# Altium integrated library CDE_Library.IntLib: 6171 symbols (part 9 of 25)
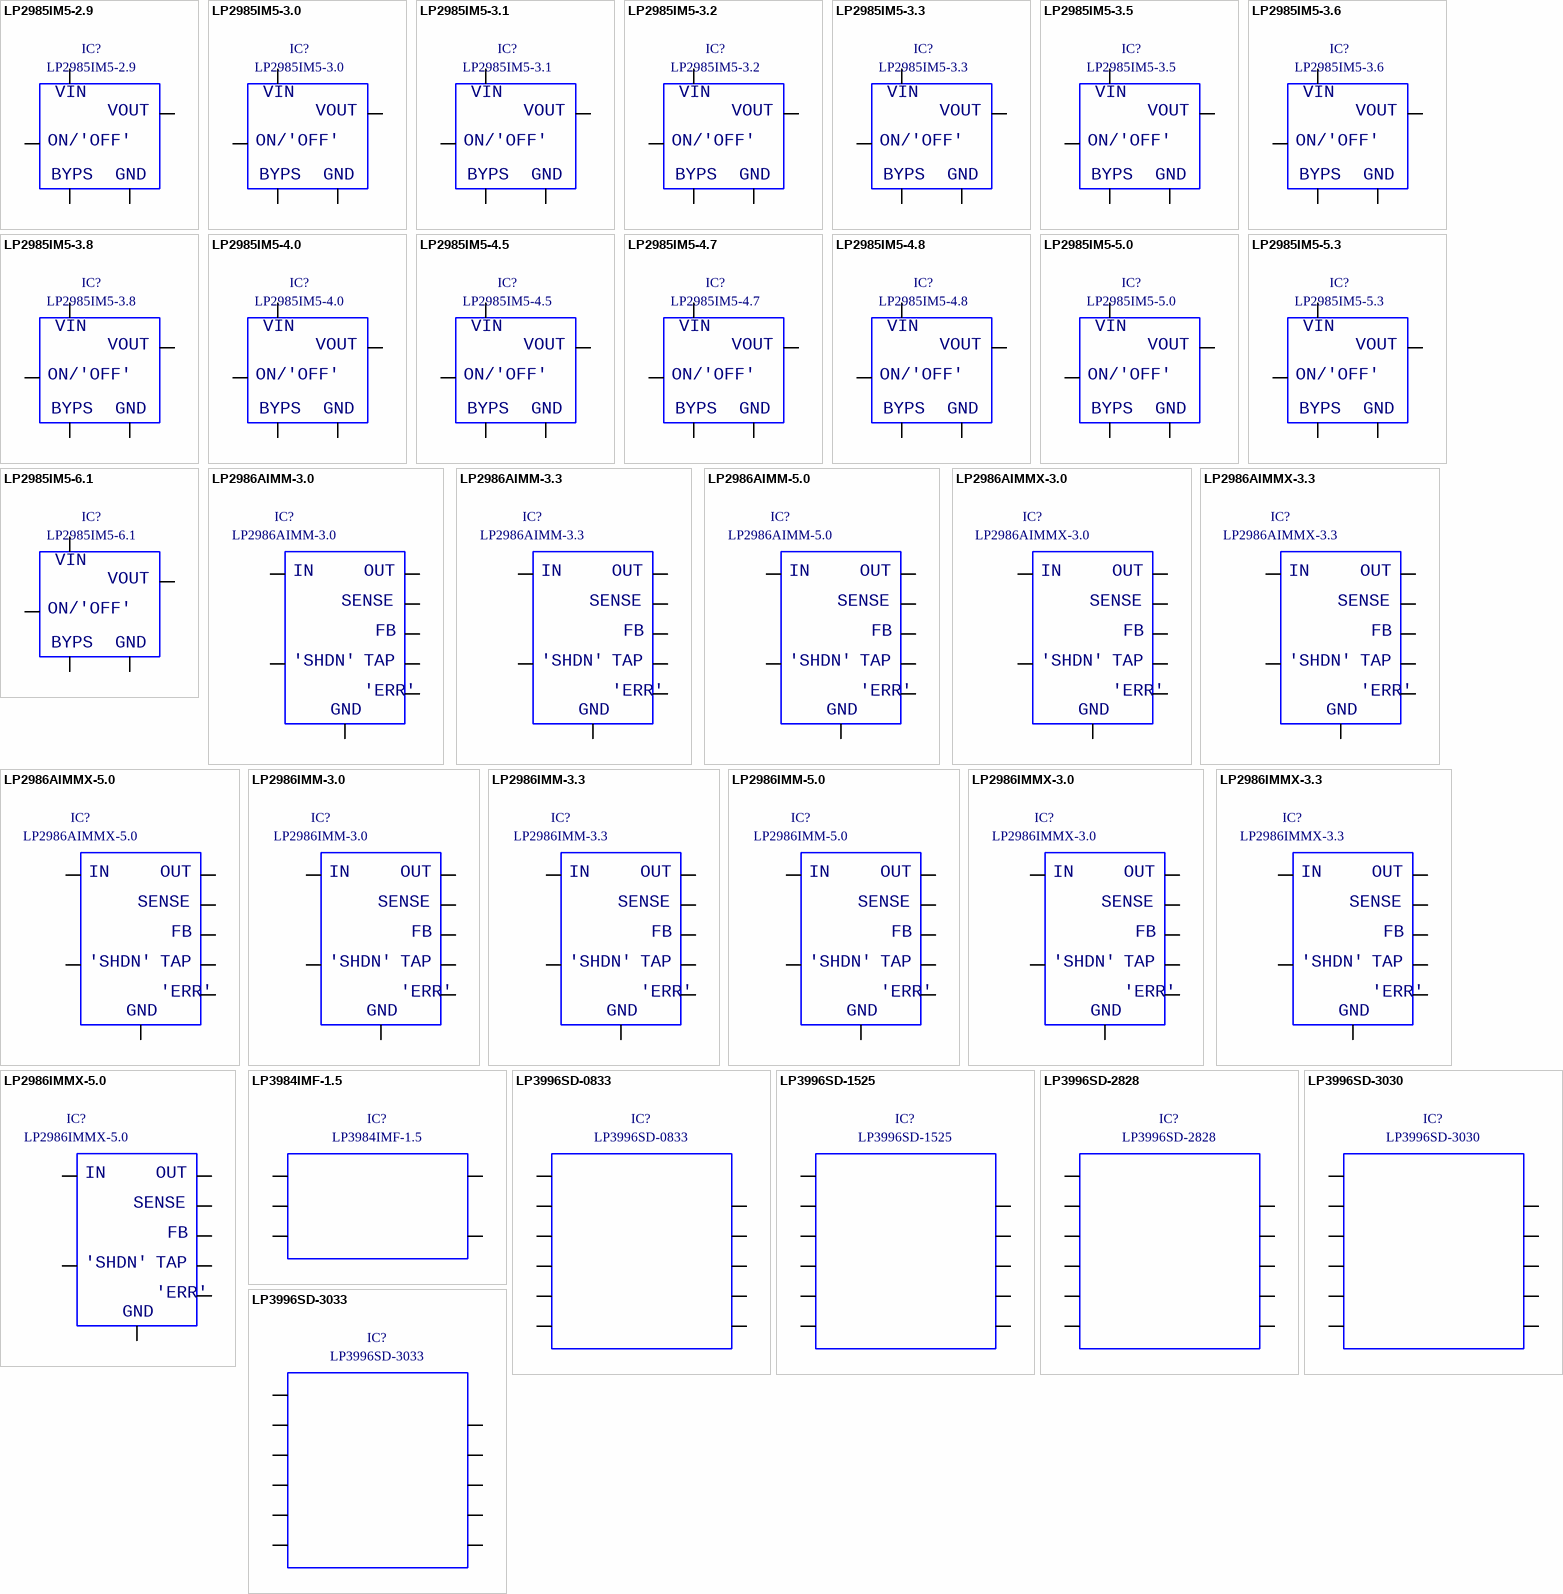
[diagram p265: symbols LP2985IM5-2.9 to LP3996SD-3033]

## LP2986IMM-3.3
designator IC?
micropower, 200 mA ultra low-dropout regulator; Part Number: LP2986IMM-3.3; Component Kind: Standard; Component Type: Standard; Designator: LP2986IMM-3.3; Footprint: smd TSSOP/8 (body 4.4 pitch 0.65); Library Reference: LP2986IMM-3.3; Pin Count: 8
footprint smd TSSOP/8 (body 4.4 pitch 0.65)
pins: 1, 2, 3, 4, 5, 6, 7, 8
text: IN; OUT; SENSE; FB; 'SHDN'; TAP; 'ERR'; GND

## LP2986IMM-5.0
designator IC?
micropower, 200 mA ultra low-dropout regulator; Part Number: LP2986IMM-5.0; Component Kind: Standard; Component Type: Standard; Designator: LP2986IMM-5.0; Footprint: smd TSSOP/8 (body 4.4 pitch 0.65); Library Reference: LP2986IMM-5.0; Pin Count: 8
footprint smd TSSOP/8 (body 4.4 pitch 0.65)
pins: 1, 2, 3, 4, 5, 6, 7, 8
text: IN; OUT; SENSE; FB; 'SHDN'; TAP; 'ERR'; GND

## LP2986IMMX-3.0
designator IC?
micropower, 200 mA ultra low-dropout regulator; Part Number: LP2986IMMX-3.0; Component Kind: Standard; Component Type: Standard; Designator: LP2986IMMX-3.0; Footprint: smd TSSOP/8 (body 4.4 pitch 0.65); Library Reference: LP2986IMMX-3.0; Pin Count: 8
footprint smd TSSOP/8 (body 4.4 pitch 0.65)
pins: 1, 2, 3, 4, 5, 6, 7, 8
text: IN; OUT; SENSE; FB; 'SHDN'; TAP; 'ERR'; GND

## LP2986IMMX-3.3
designator IC?
micropower, 200 mA ultra low-dropout regulator; Part Number: LP2986IMMX-3.3; Component Kind: Standard; Component Type: Standard; Designator: LP2986IMMX-3.3; Footprint: smd TSSOP/8 (body 4.4 pitch 0.65); Library Reference: LP2986IMMX-3.3; Pin Count: 8
footprint smd TSSOP/8 (body 4.4 pitch 0.65)
pins: 1, 2, 3, 4, 5, 6, 7, 8
text: IN; OUT; SENSE; FB; 'SHDN'; TAP; 'ERR'; GND

## LP2986IMMX-5.0
designator IC?
micropower, 200 mA ultra low-dropout regulator; Part Number: LP2986IMMX-5.0; Component Kind: Standard; Component Type: Standard; Designator: LP2986IMMX-5.0; Footprint: smd TSSOP/8 (body 4.4 pitch 0.65); Library Reference: LP2986IMMX-5.0; Pin Count: 8
footprint smd TSSOP/8 (body 4.4 pitch 0.65)
pins: 1, 2, 3, 4, 5, 6, 7, 8
text: IN; OUT; SENSE; FB; 'SHDN'; TAP; 'ERR'; GND

## LP3984IMF-1.5
designator IC?
spanningsregelaar, ulra low dropout, micropower, low noise
footprint smd SOT-23/5p (body 1.6 wide, pitch 0.95mm)
pins: 1 VIN, 2 GND, 3 VEN, 4 NC, 5 VOUT

## LP3996SD-0833
designator IC?
Dual Linear LDO Regulator
footprint smd LLP/10
pins: 1 VIN, 2 EN1, 3 EN2, 4 CBYP, 5 SET, 6 GND, 7 NC, 8 POR, 9 VOUT2, 10 VOUT1, 11 GND

## LP3996SD-1525
designator IC?
Dual Linear LDO Regulator; Part Number: LP3996SD-1525; Component Kind: Standard; Component Type: Standard; Designator: LP3996SD-1525; Footprint: smd LLP/10; Library Reference: LP3996SD-1525; Pin Count: 11
footprint smd LLP/10
pins: 1 VIN, 2 EN1, 3 EN2, 4 CBYP, 5 SET, 6 GND, 7 NC, 8 POR, 9 VOUT2, 10 VOUT1, 11 GND

## LP3996SD-2828
designator IC?
Dual Linear LDO Regulator; Part Number: LP3996SD-2828; Component Kind: Standard; Component Type: Standard; Designator: LP3996SD-2828; Footprint: smd LLP/10; Library Reference: LP3996SD-2828; Pin Count: 11
footprint smd LLP/10
pins: 1 VIN, 2 EN1, 3 EN2, 4 CBYP, 5 SET, 6 GND, 7 NC, 8 POR, 9 VOUT2, 10 VOUT1, 11 GND

## LP3996SD-3030
designator IC?
Dual Linear LDO Regulator; Part Number: LP3996SD-3030; Component Kind: Standard; Component Type: Standard; Designator: LP3996SD-3030; Footprint: smd LLP/10; Library Reference: LP3996SD-3030; Pin Count: 11
footprint smd LLP/10
pins: 1 VIN, 2 EN1, 3 EN2, 4 CBYP, 5 SET, 6 GND, 7 NC, 8 POR, 9 VOUT2, 10 VOUT1, 11 GND

## LP3996SD-3033
designator IC?
Dual Linear LDO Regulator; Part Number: LP3996SD-3033; Component Kind: Standard; Component Type: Standard; Designator: LP3996SD-3033; Footprint: smd LLP/10; Library Reference: LP3996SD-3033; Pin Count: 11
footprint smd LLP/10
pins: 1 VIN, 2 EN1, 3 EN2, 4 CBYP, 5 SET, 6 GND, 7 NC, 8 POR, 9 VOUT2, 10 VOUT1, 11 GND

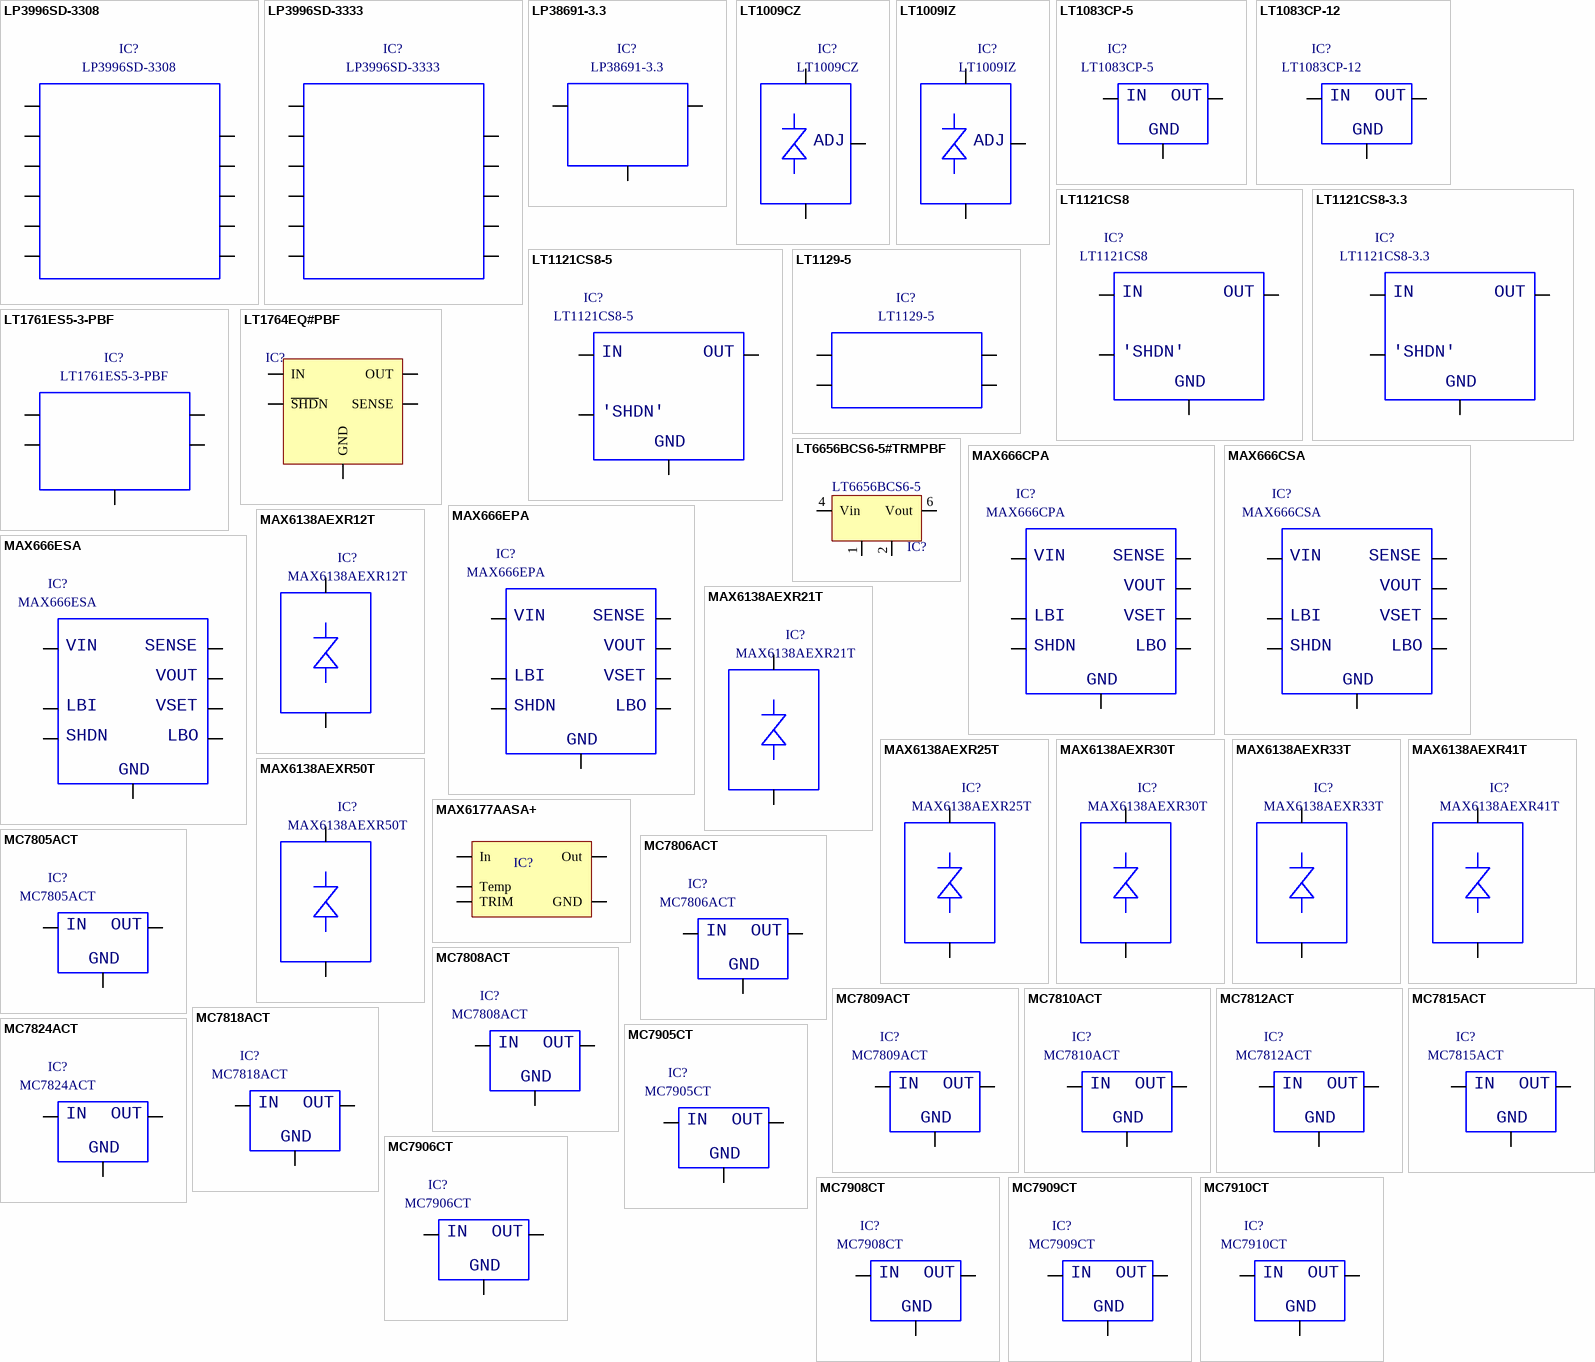
[diagram p112: symbols LP3996SD-3308 to MC7910CT]

## LP3996SD-3308
designator IC?
Dual Linear LDO Regulator; Part Number: LP3996SD-3308; Component Kind: Standard; Component Type: Standard; Designator: LP3996SD-3308; Footprint: smd LLP/10; Library Reference: LP3996SD-3308; Pin Count: 11
footprint smd LLP/10
pins: 1 VIN, 2 EN1, 3 EN2, 4 CBYP, 5 SET, 6 GND, 7 NC, 8 POR, 9 VOUT2, 10 VOUT1, 11 GND

## LP3996SD-3333
designator IC?
Dual Linear LDO Regulator; Part Number: LP3996SD-3333; Component Kind: Standard; Component Type: Standard; Designator: LP3996SD-3333; Footprint: smd LLP/10; Library Reference: LP3996SD-3333; Pin Count: 11
footprint smd LLP/10
pins: 1 VIN, 2 EN1, 3 EN2, 4 CBYP, 5 SET, 6 GND, 7 NC, 8 POR, 9 VOUT2, 10 VOUT1, 11 GND

## LP38691-3.3
designator IC?
LDO 3.3V, TO-225
footprint TO-252 3pin
pins: 1 Vout, 2 GND, 3 Vin

## LT1009CZ
designator IC?
precision voltage reference, 2.5000V
footprint TO-92
pins: 1, 2, 3
text: ADJ

## LT1009IZ
designator IC?
precision voltage reference, 2.5000V; Part Number: LT1009IZ; Component Kind: Standard; Component Type: Standard; Designator: LT1009IZ; Footprint: TO-92; Library Reference: LT1009IZ; Pin Count: 3
footprint TO-92
pins: 1, 2, 3
text: ADJ

## LT1083CP-5
designator IC?
spanningsregelaar +5v/7.5A
footprint TO-247 (vertikaal)
pins: 1, 2, 3
text: IN; OUT; GND

## LT1083CP-12
designator IC?
spanningsregelaar +12V/7.5A; Part Number: LT1083CP-12; Component Kind: Standard; Component Type: Standard; Designator: LT1083CP-12; Footprint: TO-247 (vertikaal); Library Reference: LT1083CP-12; Pin Count: 3
footprint TO-247 (vertikaal)
pins: 1, 2, 3
text: IN; OUT; GND

## LT1121CS8
designator IC?
micropower low dropout regulators with shutdown, adj.
footprint smd SOICN/8
pins: 1, 3, 5, 8
text: IN; OUT; 'SHDN'; GND

## LT1121CS8-3.3
designator IC?
micropower low dropout regulators with shutdown, +3.3V; Part Number: LT1121CS8-3.3; Component Kind: Standard; Component Type: Standard; Designator: LT1121CS8-3.3; Footprint: smd SOICN/8; Library Reference: LT1121CS8-3.3; Pin Count: 4
footprint smd SOICN/8
pins: 1, 3, 5, 8
text: IN; OUT; 'SHDN'; GND

## LT1121CS8-5
designator IC?
micropower low dropout regulators with shutdown, +5V; Part Number: LT1121CS8-5; Component Kind: Standard; Component Type: Standard; Designator: LT1121CS8-5; Footprint: smd SOICN/8; Library Reference: LT1121CS8-5; Pin Count: 4
footprint smd SOICN/8
pins: 1, 3, 5, 8
text: IN; OUT; 'SHDN'; GND

## LT1129-5
designator IC?
Low Drop-Out linear regulator 5V 700mA
footprint smd SOT-223
pins: 1 Vin, 2 GND, 3 Vout, 4 GND

## LT1761ES5-3-PBF
designator IC?
100mA Low Noise LDO micropower regulator
footprint smd SOT-23/5p (body 1.6 wide, pitch 0.95mm)
pins: 1 IN, 2 GND, 3 'SHDN', 4 BYP, 5 OUT

## LT1764EQ#PBF
designator IC?  (value not drawn)
3A, Fast Transient  Response, Low Noise,  LDO Regulator
footprint SMD D2-PAK-5
pins: 1 ~{SHD}N, 2 IN, 3 GND, 4 OUT, 5 SENSE

## LT6656BCS6-5#TRMPBF
designator IC?, comment LT6656BCS6-5
1uA Precision Series  Voltage Reference
footprint smd SOT-23/6p (body 1.6 wide, pitch 0.95mm)
pins: 1, 2, 4 Vin, 6 Vout

## MAX666CPA
designator IC?
dual mode 5V programmable µ-power voltage regulator
footprint icv DIP8-300
pins: 1, 2, 3, 4, 5, 6, 7, 8
text: VIN; SENSE; VOUT; LBI; VSET; SHDN; LBO; GND

## MAX666CSA
designator IC?
dual mode 5V programmable µ-power voltage regulator
footprint smd SOICN/8
pins: 1, 2, 3, 4, 5, 6, 7, 8
text: VIN; SENSE; VOUT; LBI; VSET; SHDN; LBO; GND

## MAX666EPA
designator IC?
dual mode 5V programmable µ-power voltage regulator; Part Number: MAX666EPA; Component Kind: Standard; Component Type: Standard; Designator: MAX666EPA; Footprint: icv DIP8-300; Library Reference: MAX666EPA; Pin Count: 8
footprint icv DIP8-300
pins: 1, 2, 3, 4, 5, 6, 7, 8
text: VIN; SENSE; VOUT; LBI; VSET; SHDN; LBO; GND

## MAX666ESA
designator IC?
dual mode 5V programmable µ-power voltage regulator; Part Number: MAX666ESA; Component Kind: Standard; Component Type: Standard; Designator: MAX666ESA; Footprint: smd SOICN/8; Library Reference: MAX666ESA; Pin Count: 8
footprint smd SOICN/8
pins: 1, 2, 3, 4, 5, 6, 7, 8
text: VIN; SENSE; VOUT; LBI; VSET; SHDN; LBO; GND

## MAX6138AEXR12T
designator IC?
precision voltage reference, 1.2205V
footprint smd SOT-23
pins: 1, 2

## MAX6138AEXR21T
designator IC?
precision voltage reference, 2.0480V; Part Number: MAX6138AEXR21T; Component Kind: Standard; Component Type: Standard; Designator: MAX6138AEXR21T; Footprint: smd SOT-23; Library Reference: MAX6138AEXR21T; Pin Count: 2
footprint smd SOT-23
pins: 1, 2

## MAX6138AEXR25T
designator IC?
precision voltage reference, 2.5000V; Part Number: MAX6138AEXR25T; Component Kind: Standard; Component Type: Standard; Designator: MAX6138AEXR25T; Footprint: smd SOT-23; Library Reference: MAX6138AEXR25T; Pin Count: 2
footprint smd SOT-23
pins: 1, 2

## MAX6138AEXR30T
designator IC?
precision voltage reference, 3.0000V; Part Number: MAX6138AEXR30T; Component Kind: Standard; Component Type: Standard; Designator: MAX6138AEXR30T; Footprint: smd SOT-23; Library Reference: MAX6138AEXR30T; Pin Count: 2
footprint smd SOT-23
pins: 1, 2

## MAX6138AEXR33T
designator IC?
precision voltage reference, 3.3000V; Part Number: MAX6138AEXR33T; Component Kind: Standard; Component Type: Standard; Designator: MAX6138AEXR33T; Footprint: smd SOT-23; Library Reference: MAX6138AEXR33T; Pin Count: 2
footprint smd SOT-23
pins: 1, 2

## MAX6138AEXR41T
designator IC?
precision voltage reference, 4.0960V; Part Number: MAX6138AEXR41T; Component Kind: Standard; Component Type: Standard; Designator: MAX6138AEXR41T; Footprint: smd SOT-23; Library Reference: MAX6138AEXR41T; Pin Count: 2
footprint smd SOT-23
pins: 1, 2

## MAX6138AEXR50T
designator IC?
precision voltage reference, 5.0000V; Part Number: MAX6138AEXR50T; Component Kind: Standard; Component Type: Standard; Designator: MAX6138AEXR50T; Footprint: smd SOT-23; Library Reference: MAX6138AEXR50T; Pin Count: 2
footprint smd SOT-23
pins: 1, 2

## MAX6177AASA+
designator IC?  (value not drawn)
High-Precision Voltage Reference with  Temperature Sensor
footprint smd SOICN/8
pins: 2 In, 3 Temp, 4 GND, 5 TRIM, 6 Out

## MC7805ACT
designator IC?
spanningsregelaar, +5V 1A, TO-220
footprint TO-220 (vertikaal)
pins: 1, 2, 3
text: IN; OUT; GND

## MC7806ACT
designator IC?
spanningsregelaar, +6V 1A, TO-220; Part Number: MC7806ACT; Component Kind: Standard; Component Type: Standard; Designator: MC7806ACT; Footprint: TO-220 (vertikaal); Library Reference: MC7806ACT; Pin Count: 3
footprint TO-220 (vertikaal)
pins: 1, 2, 3
text: IN; OUT; GND

## MC7808ACT
designator IC?
spanningsregelaar, +8V 1A, TO-220; Part Number: MC7808ACT; Component Kind: Standard; Component Type: Standard; Designator: MC7808ACT; Footprint: TO-220 (vertikaal); Library Reference: MC7808ACT; Pin Count: 3
footprint TO-220 (vertikaal)
pins: 1, 2, 3
text: IN; OUT; GND

## MC7809ACT
designator IC?
spanningsregelaar, +9V 1A, TO-220; Part Number: MC7809ACT; Component Kind: Standard; Component Type: Standard; Designator: MC7809ACT; Footprint: TO-220 (vertikaal); Library Reference: MC7809ACT; Pin Count: 3
footprint TO-220 (vertikaal)
pins: 1, 2, 3
text: IN; OUT; GND

## MC7810ACT
designator IC?
spanningsregelaar, +10V 1A, TO-220; Part Number: MC7810ACT; Component Kind: Standard; Component Type: Standard; Designator: MC7810ACT; Footprint: TO-220 (vertikaal); Library Reference: MC7810ACT; Pin Count: 3
footprint TO-220 (vertikaal)
pins: 1, 2, 3
text: IN; OUT; GND

## MC7812ACT
designator IC?
spanningsregelaar, +12V 1A, TO-220; Part Number: MC7812ACT; Component Kind: Standard; Component Type: Standard; Designator: MC7812ACT; Footprint: TO-220 (vertikaal); Library Reference: MC7812ACT; Pin Count: 3
footprint TO-220 (vertikaal)
pins: 1, 2, 3
text: IN; OUT; GND

## MC7815ACT
designator IC?
spanningsregelaar, +15V 1A, TO-220; Part Number: MC7815ACT; Component Kind: Standard; Component Type: Standard; Designator: MC7815ACT; Footprint: TO-220 (vertikaal); Library Reference: MC7815ACT; Pin Count: 3
footprint TO-220 (vertikaal)
pins: 1, 2, 3
text: IN; OUT; GND

## MC7818ACT
designator IC?
spanningsregelaar, +18V 1A, TO-220; Part Number: MC7818ACT; Component Kind: Standard; Component Type: Standard; Designator: MC7818ACT; Footprint: TO-220 (vertikaal); Library Reference: MC7818ACT; Pin Count: 3
footprint TO-220 (vertikaal)
pins: 1, 2, 3
text: IN; OUT; GND

## MC7824ACT
designator IC?
spanningsregelaar, +24V 1A, TO-220; Part Number: MC7824ACT; Component Kind: Standard; Component Type: Standard; Designator: MC7824ACT; Footprint: TO-220 (vertikaal); Library Reference: MC7824ACT; Pin Count: 3
footprint TO-220 (vertikaal)
pins: 1, 2, 3
text: IN; OUT; GND

## MC7905CT
designator IC?
spanningsregelaar, -5V 1A, TO-220; Part Number: MC7905CT; Component Kind: Standard; Component Type: Standard; Designator: MC7905CT; Footprint: TO-220 (vertikaal); Library Reference: MC7905CT; Pin Count: 3
footprint TO-220 (vertikaal)
pins: 1, 2, 3
text: IN; OUT; GND

## MC7906CT
designator IC?
spanningsregelaar, -6V 1A, TO-220; Part Number: MC7906CT; Component Kind: Standard; Component Type: Standard; Designator: MC7906CT; Footprint: TO-220 (vertikaal); Library Reference: MC7906CT; Pin Count: 3
footprint TO-220 (vertikaal)
pins: 1, 2, 3
text: IN; OUT; GND

## MC7908CT
designator IC?
spanningsregelaar, -8V 1A, TO-220; Part Number: MC7908CT; Component Kind: Standard; Component Type: Standard; Designator: MC7908CT; Footprint: TO-220 (vertikaal); Library Reference: MC7908CT; Pin Count: 3
footprint TO-220 (vertikaal)
pins: 1, 2, 3
text: IN; OUT; GND

## MC7909CT
designator IC?
spanningsregelaar, -9V 1A, TO-220; Part Number: MC7909CT; Component Kind: Standard; Component Type: Standard; Designator: MC7909CT; Footprint: TO-220 (vertikaal); Library Reference: MC7909CT; Pin Count: 3
footprint TO-220 (vertikaal)
pins: 1, 2, 3
text: IN; OUT; GND

## MC7910CT
designator IC?
spanningsregelaar, -10V 1A, TO-220
footprint TO-220 (vertikaal)
pins: 1, 2, 3
text: IN; OUT; GND

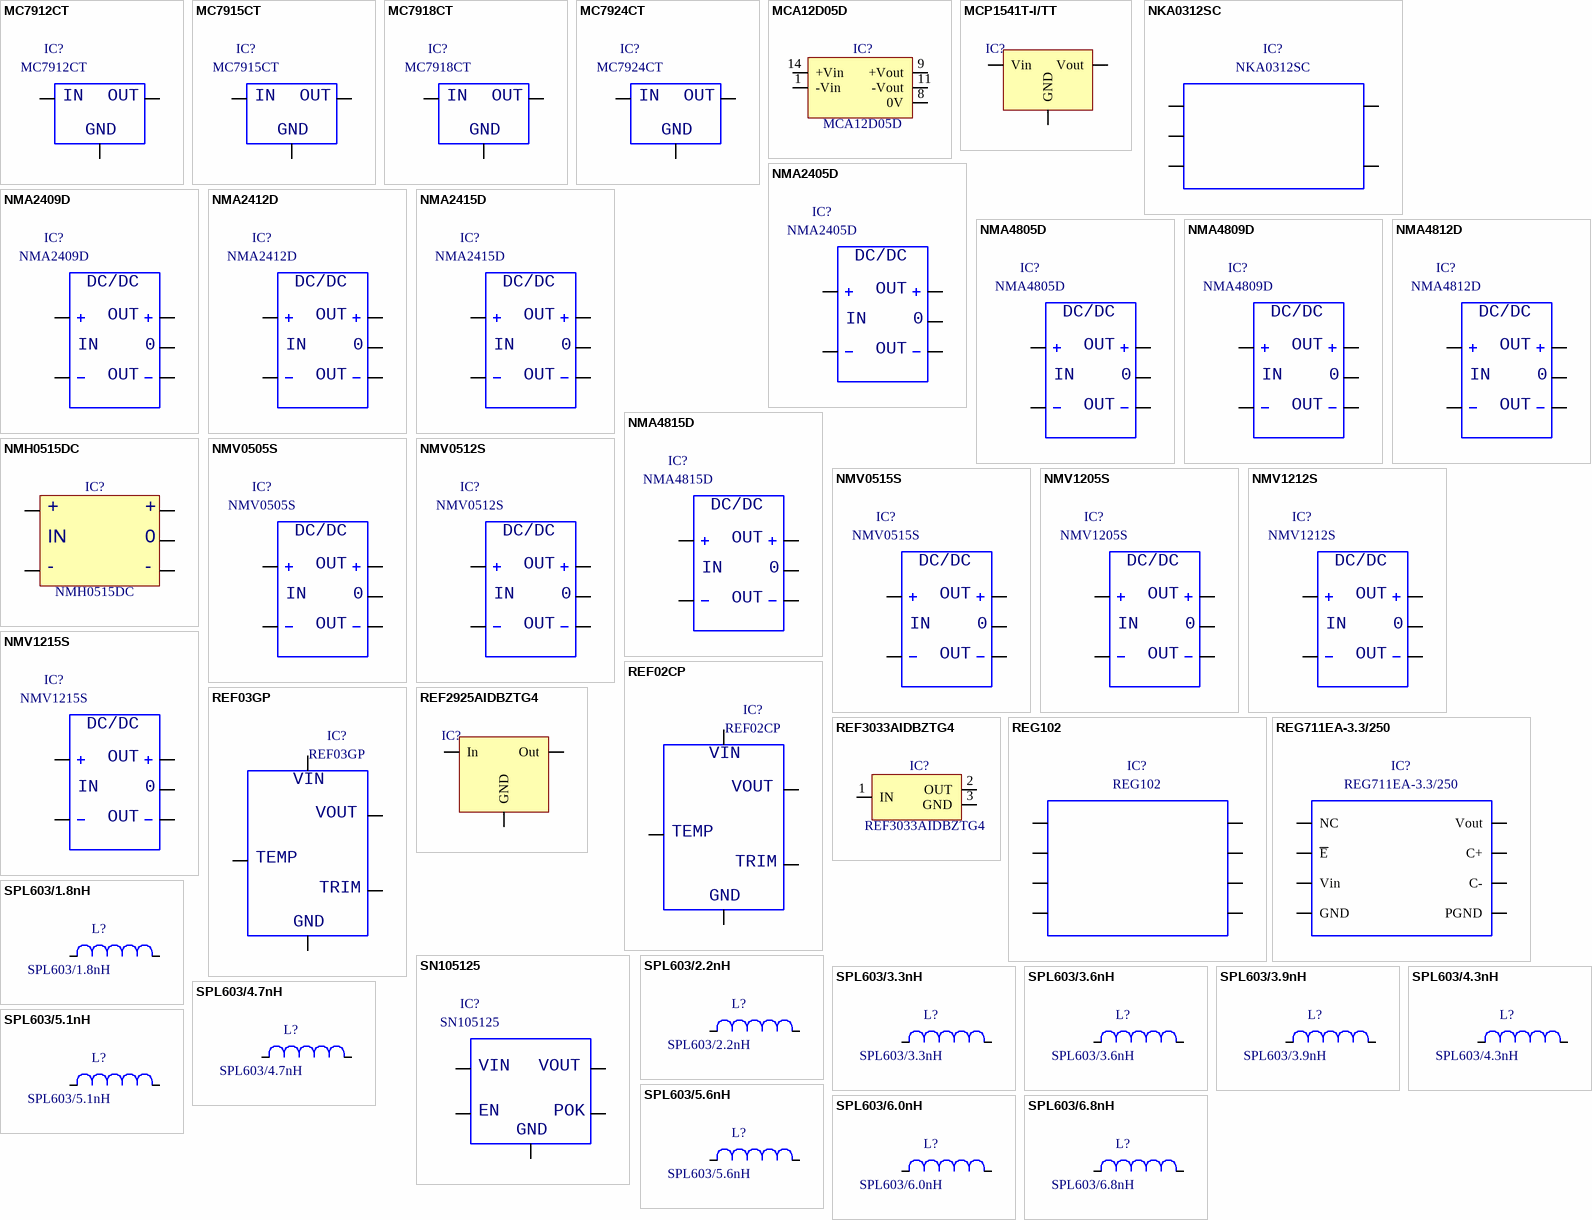
[diagram p113: symbols MC7912CT to SPL603/6.8nH]

## MC7912CT
designator IC?
spanningsregelaar, -12V 1A, TO-220; Part Number: MC7912CT; Component Kind: Standard; Component Type: Standard; Designator: MC7912CT; Footprint: TO-220 (vertikaal); Library Reference: MC7912CT; Pin Count: 3
footprint TO-220 (vertikaal)
pins: 1, 2, 3
text: IN; OUT; GND

## MC7915CT
designator IC?
spanningsregelaar, -15V 1A, TO-220; Part Number: MC7915CT; Component Kind: Standard; Component Type: Standard; Designator: MC7915CT; Footprint: TO-220 (vertikaal); Library Reference: MC7915CT; Pin Count: 3
footprint TO-220 (vertikaal)
pins: 1, 2, 3
text: IN; OUT; GND

## MC7918CT
designator IC?
spanningsregelaar, -18V 1A, TO-220; Part Number: MC7918CT; Component Kind: Standard; Component Type: Standard; Designator: MC7918CT; Footprint: TO-220 (vertikaal); Library Reference: MC7918CT; Pin Count: 3
footprint TO-220 (vertikaal)
pins: 1, 2, 3
text: IN; OUT; GND

## MC7924CT
designator IC?
spanningsregelaar, -24V 1A, TO-220; Part Number: MC7924CT; Component Kind: Standard; Component Type: Standard; Designator: MC7924CT; Footprint: TO-220 (vertikaal); Library Reference: MC7924CT; Pin Count: 3
footprint TO-220 (vertikaal)
pins: 1, 2, 3
text: IN; OUT; GND

## MCA12D05D
designator IC?
DC-DC convertor
footprint NMH0515DC
pins: 1 -Vin, 8 0V, 9 +Vout, 11 -Vout, 14 +Vin

## MCP1541T-I/TT
designator IC?  (value not drawn)
4.096 Voltage Reference
footprint smd SOT-23
pins: 1 Vin, 2 Vout, 3 GND

## NKA0312SC
designator IC?
DC/DC converter, 3.3V/+12V en -12V, Murata
footprint DC/DC conv. Murata (NKA serie SIL)
pins: 1 +VIN, 2 -VIN, 3 -VOUT, 4 0V, 5 +VOUT

## NMA2405D
designator IC?
DC/DC converter, 24/+5V en -5V, C&D Technologies
footprint icv DIP14-300
pins: 1, 8, 9, 11, 14
text: DC/DC; OUT; IN; 0

## NMA2409D
designator IC?
DC/DC converter, 24/+9V en -9V, C&D Technologies; Part Number: NMA2409D; Component Kind: Standard; Component Type: Standard; Designator: NMA2409D; Footprint: icv DIP14-300; Library Reference: NMA2409D; Pin Count: 5
footprint icv DIP14-300
pins: 1, 8, 9, 11, 14
text: DC/DC; OUT; IN; 0

## NMA2412D
designator IC?
DC/DC converter, 24/+12V en -12V, C&D Technologies; Part Number: NMA2412D; Component Kind: Standard; Component Type: Standard; Designator: NMA2412D; Footprint: icv DIP14-300; Library Reference: NMA2412D; Pin Count: 5
footprint icv DIP14-300
pins: 1, 8, 9, 11, 14
text: DC/DC; OUT; IN; 0

## NMA2415D
designator IC?
DC/DC converter, 24/+15V en -15V, C&D Technologies; Part Number: NMA2415D; Component Kind: Standard; Component Type: Standard; Designator: NMA2415D; Footprint: icv DIP14-300; Library Reference: NMA2415D; Pin Count: 5
footprint icv DIP14-300
pins: 1, 8, 9, 11, 14
text: DC/DC; OUT; IN; 0

## NMA4805D
designator IC?
DC/DC converter, 48/+5V en -5V, C&D Technologies; Part Number: NMA4805D; Component Kind: Standard; Component Type: Standard; Designator: NMA4805D; Footprint: icv DIP14-300; Library Reference: NMA4805D; Pin Count: 5
footprint icv DIP14-300
pins: 1, 8, 9, 11, 14
text: DC/DC; OUT; IN; 0

## NMA4809D
designator IC?
DC/DC converter, 48/+9V en -9V, C&D Technologies; Part Number: NMA4809D; Component Kind: Standard; Component Type: Standard; Designator: NMA4809D; Footprint: icv DIP14-300; Library Reference: NMA4809D; Pin Count: 5
footprint icv DIP14-300
pins: 1, 8, 9, 11, 14
text: DC/DC; OUT; IN; 0

## NMA4812D
designator IC?
DC/DC converter, 48/+12V en -12V, C&D Technologies; Part Number: NMA4812D; Component Kind: Standard; Component Type: Standard; Designator: NMA4812D; Footprint: icv DIP14-300; Library Reference: NMA4812D; Pin Count: 5
footprint icv DIP14-300
pins: 1, 8, 9, 11, 14
text: DC/DC; OUT; IN; 0

## NMA4815D
designator IC?
DC/DC converter, 48/+15V en -15V, C&D Technologies; Part Number: NMA4815D; Component Kind: Standard; Component Type: Standard; Designator: NMA4815D; Footprint: icv DIP14-300; Library Reference: NMA4815D; Pin Count: 5
footprint icv DIP14-300
pins: 1, 8, 9, 11, 14
text: DC/DC; OUT; IN; 0

## NMH0515DC
designator IC?
CONVERTER, DC/DC, DIL, 2W, +/-15V
footprint NMH0515dc
pins: 1, 8, 9, 11, 14
text: +; IN; 0; -

## NMV0505S
designator IC?
1W dual output DC/DC convertor
footprint DC/DC conv. CenD (package 7)
pins: 1, 2, 3, 4, 5
text: DC/DC; OUT; IN; 0

## NMV0512S
designator IC?
1W dual output DC/DC convertor; Part Number: NMV0512S; Component Kind: Standard; Component Type: Standard; Designator: NMV0512S; Footprint: DC/DC conv. CenD (package 7); Library Reference: NMV0512S; Pin Count: 5
footprint DC/DC conv. CenD (package 7)
pins: 1, 2, 3, 4, 5
text: DC/DC; OUT; IN; 0

## NMV0515S
designator IC?
1W dual output DC/DC convertor; Part Number: NMV0515S; Component Kind: Standard; Component Type: Standard; Designator: NMV0515S; Footprint: DC/DC conv. CenD (package 7); Library Reference: NMV0515S; Pin Count: 5
footprint DC/DC conv. CenD (package 7)
pins: 1, 2, 3, 4, 5
text: DC/DC; OUT; IN; 0

## NMV1205S
designator IC?
1W dual output DC/DC convertor; Part Number: NMV1205S; Component Kind: Standard; Component Type: Standard; Designator: NMV1205S; Footprint: DC/DC conv. CenD (package 7); Library Reference: NMV1205S; Pin Count: 5
footprint DC/DC conv. CenD (package 7)
pins: 1, 2, 3, 4, 5
text: DC/DC; OUT; IN; 0

## NMV1212S
designator IC?
1W dual output DC/DC convertor; Part Number: NMV1212S; Component Kind: Standard; Component Type: Standard; Designator: NMV1212S; Footprint: DC/DC conv. CenD (package 7); Library Reference: NMV1212S; Pin Count: 5
footprint DC/DC conv. CenD (package 7)
pins: 1, 2, 3, 4, 5
text: DC/DC; OUT; IN; 0

## NMV1215S
designator IC?
1W dual output DC/DC convertor; Part Number: NMV1215S; Component Kind: Standard; Component Type: Standard; Designator: NMV1215S; Footprint: DC/DC conv. CenD (package 7); Library Reference: NMV1215S; Pin Count: 5
footprint DC/DC conv. CenD (package 7)
pins: 1, 2, 3, 4, 5
text: DC/DC; OUT; IN; 0

## REF02CP
designator IC?
precision voltage reference, +5V
footprint icv DIP8-300
pins: 2, 3, 4, 5, 6
text: VIN; VOUT; TEMP; TRIM; GND

## REF03GP
designator IC?
+2.5V precision voltage reference; Part Number: REF03GP; Component Kind: Standard; Component Type: Standard; Designator: REF03GP; Footprint: icv DIP8-300; Library Reference: REF03GP; Pin Count: 5
footprint icv DIP8-300
pins: 2, 3, 4, 5, 6
text: VIN; VOUT; TEMP; TRIM; GND

## REF2925AIDBZTG4
designator IC?  (value not drawn)
CMOS VOLTAGE REFERENCE
footprint smd SOT-23
pins: 1 In, 2 Out, 3 GND

## REF3033AIDBZTG4
designator IC?
50ppm/°C Max, 50uA in SOT23-3  CMOS VOLTAGE REFERENCE
footprint smd SOT-23
pins: 1 IN, 2 OUT, 3 GND

## REG102
designator IC?
spanningsregelaar LDO 250mA
footprint smd SO8N
pins: 1 Vout, 2 Vout, 3 NR/Adj, 4 GND, 5 Enable, 6 NC, 7 Vin, 8 Vin

## REG711EA-3.3/250
designator IC?
50mA SWITCHED-CAP DC/DC CONVERTER; Part Number: REG711EA-3.3/250; Component Kind: Standard; Component Type: Standard; Designator: REG711EA-3.3/250; Footprint: smd MSOP/8; Library Reference: REG711EA-3.3/250; Pin Count: 8
footprint smd MSOP/8
pins: 1 NC, 2 ~{E}, 3 Vin, 4 GND, 5 PGND, 6 C-, 7 C+, 8 Vout

## SN105125
designator IC?
low dropout regulator, 1.2V 150mA, TO-220
footprint smd MF05A
pins: 1, 2, 3, 4, 5
text: VIN; VOUT; EN; POK; GND

## SPL603/1.8nH
designator L?
footprint smd C0603
pins: 1, 2

## SPL603/2.2nH
designator L?
Part Number: SPL603/2.2nH; Component Kind: Standard; Component Type: Standard; Designator: SPL603/2.2nH; Footprint: smd C0603; Library Reference: SPL603/2.2nH; Pin Count: 2
footprint smd C0603
pins: 1, 2

## SPL603/3.3nH
designator L?
Part Number: SPL603/3.3nH; Component Kind: Standard; Component Type: Standard; Designator: SPL603/3.3nH; Footprint: smd C0603; Library Reference: SPL603/3.3nH; Pin Count: 2
footprint smd C0603
pins: 1, 2

## SPL603/3.6nH
designator L?
Part Number: SPL603/3.6nH; Component Kind: Standard; Component Type: Standard; Designator: SPL603/3.6nH; Footprint: smd C0603; Library Reference: SPL603/3.6nH; Pin Count: 2
footprint smd C0603
pins: 1, 2

## SPL603/3.9nH
designator L?
Part Number: SPL603/3.9nH; Component Kind: Standard; Component Type: Standard; Designator: SPL603/3.9nH; Footprint: smd C0603; Library Reference: SPL603/3.9nH; Pin Count: 2
footprint smd C0603
pins: 1, 2

## SPL603/4.3nH
designator L?
Part Number: SPL603/4.3nH; Component Kind: Standard; Component Type: Standard; Designator: SPL603/4.3nH; Footprint: smd C0603; Library Reference: SPL603/4.3nH; Pin Count: 2
footprint smd C0603
pins: 1, 2

## SPL603/4.7nH
designator L?
Part Number: SPL603/4.7nH; Component Kind: Standard; Component Type: Standard; Designator: SPL603/4.7nH; Footprint: smd C0603; Library Reference: SPL603/4.7nH; Pin Count: 2
footprint smd C0603
pins: 1, 2

## SPL603/5.1nH
designator L?
Part Number: SPL603/5.1nH; Component Kind: Standard; Component Type: Standard; Designator: SPL603/5.1nH; Footprint: smd C0603; Library Reference: SPL603/5.1nH; Pin Count: 2
footprint smd C0603
pins: 1, 2

## SPL603/5.6nH
designator L?
Part Number: SPL603/5.6nH; Component Kind: Standard; Component Type: Standard; Designator: SPL603/5.6nH; Footprint: smd C0603; Library Reference: SPL603/5.6nH; Pin Count: 2
footprint smd C0603
pins: 1, 2

## SPL603/6.0nH
designator L?
Part Number: SPL603/6.0nH; Component Kind: Standard; Component Type: Standard; Designator: SPL603/6.0nH; Footprint: smd C0603; Library Reference: SPL603/6.0nH; Pin Count: 2
footprint smd C0603
pins: 1, 2

## SPL603/6.8nH
designator L?
Part Number: SPL603/6.8nH; Component Kind: Standard; Component Type: Standard; Designator: SPL603/6.8nH; Footprint: smd C0603; Library Reference: SPL603/6.8nH; Pin Count: 2
footprint smd C0603
pins: 1, 2

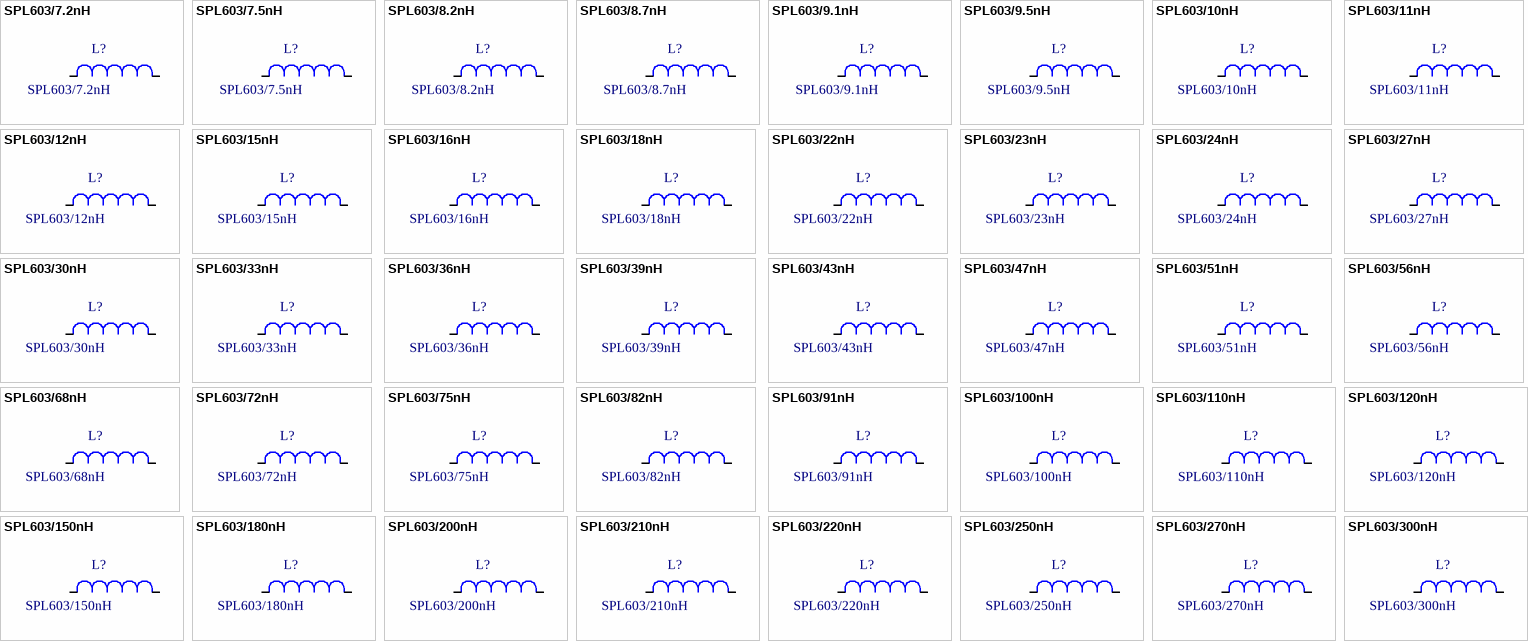
[diagram p114: symbols SPL603/7.2nH to SPL603/300nH]

## SPL603/7.2nH
designator L?
Part Number: SPL603/7.2nH; Component Kind: Standard; Component Type: Standard; Designator: SPL603/7.2nH; Footprint: smd C0603; Library Reference: SPL603/7.2nH; Pin Count: 2
footprint smd C0603
pins: 1, 2

## SPL603/7.5nH
designator L?
Part Number: SPL603/7.5nH; Component Kind: Standard; Component Type: Standard; Designator: SPL603/7.5nH; Footprint: smd C0603; Library Reference: SPL603/7.5nH; Pin Count: 2
footprint smd C0603
pins: 1, 2

## SPL603/8.2nH
designator L?
Part Number: SPL603/8.2nH; Component Kind: Standard; Component Type: Standard; Designator: SPL603/8.2nH; Footprint: smd C0603; Library Reference: SPL603/8.2nH; Pin Count: 2
footprint smd C0603
pins: 1, 2

## SPL603/8.7nH
designator L?
Part Number: SPL603/8.7nH; Component Kind: Standard; Component Type: Standard; Designator: SPL603/8.7nH; Footprint: smd C0603; Library Reference: SPL603/8.7nH; Pin Count: 2
footprint smd C0603
pins: 1, 2

## SPL603/9.1nH
designator L?
Part Number: SPL603/9.1nH; Component Kind: Standard; Component Type: Standard; Designator: SPL603/9.1nH; Footprint: smd C0603; Library Reference: SPL603/9.1nH; Pin Count: 2
footprint smd C0603
pins: 1, 2

## SPL603/9.5nH
designator L?
Part Number: SPL603/9.5nH; Component Kind: Standard; Component Type: Standard; Designator: SPL603/9.5nH; Footprint: smd C0603; Library Reference: SPL603/9.5nH; Pin Count: 2
footprint smd C0603
pins: 1, 2

## SPL603/10nH
designator L?
Part Number: SPL603/10nH; Component Kind: Standard; Component Type: Standard; Designator: SPL603/10nH; Footprint: smd C0603; Library Reference: SPL603/10nH; Pin Count: 2
footprint smd C0603
pins: 1, 2

## SPL603/11nH
designator L?
Part Number: SPL603/11nH; Component Kind: Standard; Component Type: Standard; Designator: SPL603/11nH; Footprint: smd C0603; Library Reference: SPL603/11nH; Pin Count: 2
footprint smd C0603
pins: 1, 2

## SPL603/12nH
designator L?
Part Number: SPL603/12nH; Component Kind: Standard; Component Type: Standard; Designator: SPL603/12nH; Footprint: smd C0603; Library Reference: SPL603/12nH; Pin Count: 2
footprint smd C0603
pins: 1, 2

## SPL603/15nH
designator L?
Part Number: SPL603/15nH; Component Kind: Standard; Component Type: Standard; Designator: SPL603/15nH; Footprint: smd C0603; Library Reference: SPL603/15nH; Pin Count: 2
footprint smd C0603
pins: 1, 2

## SPL603/16nH
designator L?
Part Number: SPL603/16nH; Component Kind: Standard; Component Type: Standard; Designator: SPL603/16nH; Footprint: smd C0603; Library Reference: SPL603/16nH; Pin Count: 2
footprint smd C0603
pins: 1, 2

## SPL603/18nH
designator L?
Part Number: SPL603/18nH; Component Kind: Standard; Component Type: Standard; Designator: SPL603/18nH; Footprint: smd C0603; Library Reference: SPL603/18nH; Pin Count: 2
footprint smd C0603
pins: 1, 2

## SPL603/22nH
designator L?
Part Number: SPL603/22nH; Component Kind: Standard; Component Type: Standard; Designator: SPL603/22nH; Footprint: smd C0603; Library Reference: SPL603/22nH; Pin Count: 2
footprint smd C0603
pins: 1, 2

## SPL603/23nH
designator L?
Part Number: SPL603/23nH; Component Kind: Standard; Component Type: Standard; Designator: SPL603/23nH; Footprint: smd C0603; Library Reference: SPL603/23nH; Pin Count: 2
footprint smd C0603
pins: 1, 2

## SPL603/24nH
designator L?
Part Number: SPL603/24nH; Component Kind: Standard; Component Type: Standard; Designator: SPL603/24nH; Footprint: smd C0603; Library Reference: SPL603/24nH; Pin Count: 2
footprint smd C0603
pins: 1, 2

## SPL603/27nH
designator L?
Part Number: SPL603/27nH; Component Kind: Standard; Component Type: Standard; Designator: SPL603/27nH; Footprint: smd C0603; Library Reference: SPL603/27nH; Pin Count: 2
footprint smd C0603
pins: 1, 2

## SPL603/30nH
designator L?
Part Number: SPL603/30nH; Component Kind: Standard; Component Type: Standard; Designator: SPL603/30nH; Footprint: smd C0603; Library Reference: SPL603/30nH; Pin Count: 2
footprint smd C0603
pins: 1, 2

## SPL603/33nH
designator L?
Part Number: SPL603/33nH; Component Kind: Standard; Component Type: Standard; Designator: SPL603/33nH; Footprint: smd C0603; Library Reference: SPL603/33nH; Pin Count: 2
footprint smd C0603
pins: 1, 2

## SPL603/36nH
designator L?
Part Number: SPL603/36nH; Component Kind: Standard; Component Type: Standard; Designator: SPL603/36nH; Footprint: smd C0603; Library Reference: SPL603/36nH; Pin Count: 2
footprint smd C0603
pins: 1, 2

## SPL603/39nH
designator L?
Part Number: SPL603/39nH; Component Kind: Standard; Component Type: Standard; Designator: SPL603/39nH; Footprint: smd C0603; Library Reference: SPL603/39nH; Pin Count: 2
footprint smd C0603
pins: 1, 2

## SPL603/43nH
designator L?
Part Number: SPL603/43nH; Component Kind: Standard; Component Type: Standard; Designator: SPL603/43nH; Footprint: smd C0603; Library Reference: SPL603/43nH; Pin Count: 2
footprint smd C0603
pins: 1, 2

## SPL603/47nH
designator L?
Part Number: SPL603/47nH; Component Kind: Standard; Component Type: Standard; Designator: SPL603/47nH; Footprint: smd C0603; Library Reference: SPL603/47nH; Pin Count: 2
footprint smd C0603
pins: 1, 2

## SPL603/51nH
designator L?
Part Number: SPL603/51nH; Component Kind: Standard; Component Type: Standard; Designator: SPL603/51nH; Footprint: smd C0603; Library Reference: SPL603/51nH; Pin Count: 2
footprint smd C0603
pins: 1, 2

## SPL603/56nH
designator L?
Part Number: SPL603/56nH; Component Kind: Standard; Component Type: Standard; Designator: SPL603/56nH; Footprint: smd C0603; Library Reference: SPL603/56nH; Pin Count: 2
footprint smd C0603
pins: 1, 2

## SPL603/68nH
designator L?
Part Number: SPL603/68nH; Component Kind: Standard; Component Type: Standard; Designator: SPL603/68nH; Footprint: smd C0603; Library Reference: SPL603/68nH; Pin Count: 2
footprint smd C0603
pins: 1, 2

## SPL603/72nH
designator L?
Part Number: SPL603/72nH; Component Kind: Standard; Component Type: Standard; Designator: SPL603/72nH; Footprint: smd C0603; Library Reference: SPL603/72nH; Pin Count: 2
footprint smd C0603
pins: 1, 2

## SPL603/75nH
designator L?
Part Number: SPL603/75nH; Component Kind: Standard; Component Type: Standard; Designator: SPL603/75nH; Footprint: smd C0603; Library Reference: SPL603/75nH; Pin Count: 2
footprint smd C0603
pins: 1, 2

## SPL603/82nH
designator L?
Part Number: SPL603/82nH; Component Kind: Standard; Component Type: Standard; Designator: SPL603/82nH; Footprint: smd C0603; Library Reference: SPL603/82nH; Pin Count: 2
footprint smd C0603
pins: 1, 2

## SPL603/91nH
designator L?
Part Number: SPL603/91nH; Component Kind: Standard; Component Type: Standard; Designator: SPL603/91nH; Footprint: smd C0603; Library Reference: SPL603/91nH; Pin Count: 2
footprint smd C0603
pins: 1, 2

## SPL603/100nH
designator L?
Part Number: SPL603/100nH; Component Kind: Standard; Component Type: Standard; Designator: SPL603/100nH; Footprint: smd C0603; Library Reference: SPL603/100nH; Pin Count: 2
footprint smd C0603
pins: 1, 2

## SPL603/110nH
designator L?
Part Number: SPL603/110nH; Component Kind: Standard; Component Type: Standard; Designator: SPL603/110nH; Footprint: smd C0603; Library Reference: SPL603/110nH; Pin Count: 2
footprint smd C0603
pins: 1, 2

## SPL603/120nH
designator L?
Part Number: SPL603/120nH; Component Kind: Standard; Component Type: Standard; Designator: SPL603/120nH; Footprint: smd C0603; Library Reference: SPL603/120nH; Pin Count: 2
footprint smd C0603
pins: 1, 2

## SPL603/150nH
designator L?
Part Number: SPL603/150nH; Component Kind: Standard; Component Type: Standard; Designator: SPL603/150nH; Footprint: smd C0603; Library Reference: SPL603/150nH; Pin Count: 2
footprint smd C0603
pins: 1, 2

## SPL603/180nH
designator L?
Part Number: SPL603/180nH; Component Kind: Standard; Component Type: Standard; Designator: SPL603/180nH; Footprint: smd C0603; Library Reference: SPL603/180nH; Pin Count: 2
footprint smd C0603
pins: 1, 2

## SPL603/200nH
designator L?
Part Number: SPL603/200nH; Component Kind: Standard; Component Type: Standard; Designator: SPL603/200nH; Footprint: smd C0603; Library Reference: SPL603/200nH; Pin Count: 2
footprint smd C0603
pins: 1, 2

## SPL603/210nH
designator L?
Part Number: SPL603/210nH; Component Kind: Standard; Component Type: Standard; Designator: SPL603/210nH; Footprint: smd C0603; Library Reference: SPL603/210nH; Pin Count: 2
footprint smd C0603
pins: 1, 2

## SPL603/220nH
designator L?
Part Number: SPL603/220nH; Component Kind: Standard; Component Type: Standard; Designator: SPL603/220nH; Footprint: smd C0603; Library Reference: SPL603/220nH; Pin Count: 2
footprint smd C0603
pins: 1, 2

## SPL603/250nH
designator L?
Part Number: SPL603/250nH; Component Kind: Standard; Component Type: Standard; Designator: SPL603/250nH; Footprint: smd C0603; Library Reference: SPL603/250nH; Pin Count: 2
footprint smd C0603
pins: 1, 2

## SPL603/270nH
designator L?
Part Number: SPL603/270nH; Component Kind: Standard; Component Type: Standard; Designator: SPL603/270nH; Footprint: smd C0603; Library Reference: SPL603/270nH; Pin Count: 2
footprint smd C0603
pins: 1, 2

## SPL603/300nH
designator L?
Part Number: SPL603/300nH; Component Kind: Standard; Component Type: Standard; Designator: SPL603/300nH; Footprint: smd C0603; Library Reference: SPL603/300nH; Pin Count: 2
footprint smd C0603
pins: 1, 2

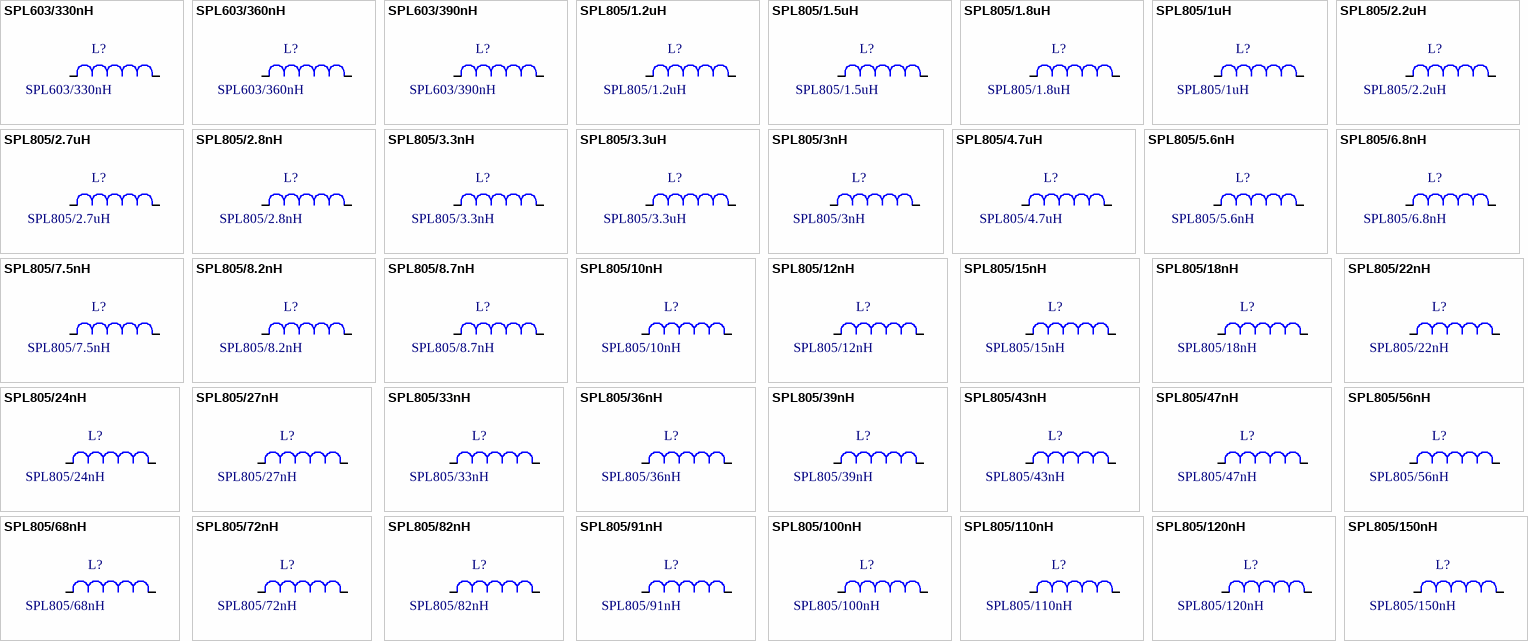
[diagram p115: symbols SPL603/330nH to SPL805/150nH]

## SPL603/330nH
designator L?
Part Number: SPL603/330nH; Component Kind: Standard; Component Type: Standard; Designator: SPL603/330nH; Footprint: smd C0603; Library Reference: SPL603/330nH; Pin Count: 2
footprint smd C0603
pins: 1, 2

## SPL603/360nH
designator L?
Part Number: SPL603/360nH; Component Kind: Standard; Component Type: Standard; Designator: SPL603/360nH; Footprint: smd C0603; Library Reference: SPL603/360nH; Pin Count: 2
footprint smd C0603
pins: 1, 2

## SPL603/390nH
designator L?
Part Number: SPL603/390nH; Component Kind: Standard; Component Type: Standard; Designator: SPL603/390nH; Footprint: smd C0603; Library Reference: SPL603/390nH; Pin Count: 2
footprint smd C0603
pins: 1, 2

## SPL805/1.2uH
designator L?
smd spoel, verpakking 805, 1.2uH; Part Number: SPL805/1.2uH; Component Kind: Standard; Component Type: Standard; Designator: SPL805/1.2uH; Footprint: smd C0805; Library Reference: SPL805/1.2uH; Pin Count: 2
footprint smd C0805
pins: 1, 2

## SPL805/1.5uH
designator L?
smd spoel, verpakking 805, 1.5uH; Part Number: SPL805/1.5uH; Component Kind: Standard; Component Type: Standard; Designator: SPL805/1.5uH; Footprint: smd C0805; Library Reference: SPL805/1.5uH; Pin Count: 2
footprint smd C0805
pins: 1, 2

## SPL805/1.8uH
designator L?
smd spoel, verpakking 805, 1.8uH; Part Number: SPL805/1.8uH; Component Kind: Standard; Component Type: Standard; Designator: SPL805/1.8uH; Footprint: smd C0805; Library Reference: SPL805/1.8uH; Pin Count: 2
footprint smd C0805
pins: 1, 2

## SPL805/1uH
designator L?
smd spoel, verpakking 805, 1uH; Part Number: SPL805/1uH; Component Kind: Standard; Component Type: Standard; Designator: SPL805/1uH; Footprint: smd C0805; Library Reference: SPL805/1uH; Pin Count: 2
footprint smd C0805
pins: 1, 2

## SPL805/2.2uH
designator L?
smd spoel, verpakking 805, 2.2uH; Part Number: SPL805/2.2uH; Component Kind: Standard; Component Type: Standard; Designator: SPL805/2.2uH; Footprint: smd C0805; Library Reference: SPL805/2.2uH; Pin Count: 2
footprint smd C0805
pins: 1, 2

## SPL805/2.7uH
designator L?
smd spoel, verpakking 805, 2.7uH; Part Number: SPL805/2.7uH; Component Kind: Standard; Component Type: Standard; Designator: SPL805/2.7uH; Footprint: smd C0805; Library Reference: SPL805/2.7uH; Pin Count: 2
footprint smd C0805
pins: 1, 2

## SPL805/2.8nH
designator L?
smd spoel, verpakking 805, 2.8nH
footprint smd C0805
pins: 1, 2

## SPL805/3.3nH
designator L?
smd spoel, verpakking 805, 3.3nH; Part Number: SPL805/3.3nH; Component Kind: Standard; Component Type: Standard; Designator: SPL805/3.3nH; Footprint: smd C0805; Library Reference: SPL805/3.3nH; Pin Count: 2
footprint smd C0805
pins: 1, 2

## SPL805/3.3uH
designator L?
smd spoel, verpakking 805, 3.3uH; Part Number: SPL805/3.3uH; Component Kind: Standard; Component Type: Standard; Designator: SPL805/3.3uH; Footprint: smd C0805; Library Reference: SPL805/3.3uH; Pin Count: 2
footprint smd C0805
pins: 1, 2

## SPL805/3nH
designator L?
smd spoel, verpakking 805, 3nH; Part Number: SPL805/3nH; Component Kind: Standard; Component Type: Standard; Designator: SPL805/3nH; Footprint: smd C0805; Library Reference: SPL805/3nH; Pin Count: 2
footprint smd C0805
pins: 1, 2

## SPL805/4.7uH
designator L?
smd spoel, verpakking 805, 4.7uH; Part Number: SPL805/4.7uH; Component Kind: Standard; Component Type: Standard; Designator: SPL805/4.7uH; Footprint: smd C0805; Library Reference: SPL805/4.7uH; Pin Count: 2
footprint smd C0805
pins: 1, 2

## SPL805/5.6nH
designator L?
smd spoel, verpakking 805, 5.6nH; Part Number: SPL805/5.6nH; Component Kind: Standard; Component Type: Standard; Designator: SPL805/5.6nH; Footprint: smd C0805; Library Reference: SPL805/5.6nH; Pin Count: 2
footprint smd C0805
pins: 1, 2

## SPL805/6.8nH
designator L?
smd spoel, verpakking 805, 6.8nH; Part Number: SPL805/6.8nH; Component Kind: Standard; Component Type: Standard; Designator: SPL805/6.8nH; Footprint: smd C0805; Library Reference: SPL805/6.8nH; Pin Count: 2
footprint smd C0805
pins: 1, 2

## SPL805/7.5nH
designator L?
smd spoel, verpakking 805, 7.5nH; Part Number: SPL805/7.5nH; Component Kind: Standard; Component Type: Standard; Designator: SPL805/7.5nH; Footprint: smd C0805; Library Reference: SPL805/7.5nH; Pin Count: 2
footprint smd C0805
pins: 1, 2

## SPL805/8.2nH
designator L?
smd spoel, verpakking 805, 8.2nH; Part Number: SPL805/8.2nH; Component Kind: Standard; Component Type: Standard; Designator: SPL805/8.2nH; Footprint: smd C0805; Library Reference: SPL805/8.2nH; Pin Count: 2
footprint smd C0805
pins: 1, 2

## SPL805/8.7nH
designator L?
smd spoel, verpakking 805, 8.7nH; Part Number: SPL805/8.7nH; Component Kind: Standard; Component Type: Standard; Designator: SPL805/8.7nH; Footprint: smd C0805; Library Reference: SPL805/8.7nH; Pin Count: 2
footprint smd C0805
pins: 1, 2

## SPL805/10nH
designator L?
smd spoel, verpakking 805, 10nH; Part Number: SPL805/10nH; Component Kind: Standard; Component Type: Standard; Designator: SPL805/10nH; Footprint: smd C0805; Library Reference: SPL805/10nH; Pin Count: 2
footprint smd C0805
pins: 1, 2

## SPL805/12nH
designator L?
smd spoel, verpakking 805, 12nH; Part Number: SPL805/12nH; Component Kind: Standard; Component Type: Standard; Designator: SPL805/12nH; Footprint: smd C0805; Library Reference: SPL805/12nH; Pin Count: 2
footprint smd C0805
pins: 1, 2

## SPL805/15nH
designator L?
smd spoel, verpakking 805, 15nH; Part Number: SPL805/15nH; Component Kind: Standard; Component Type: Standard; Designator: SPL805/15nH; Footprint: smd C0805; Library Reference: SPL805/15nH; Pin Count: 2
footprint smd C0805
pins: 1, 2

## SPL805/18nH
designator L?
smd spoel, verpakking 805, 18nH; Part Number: SPL805/18nH; Component Kind: Standard; Component Type: Standard; Designator: SPL805/18nH; Footprint: smd C0805; Library Reference: SPL805/18nH; Pin Count: 2
footprint smd C0805
pins: 1, 2

## SPL805/22nH
designator L?
smd spoel, verpakking 805, 22nH; Part Number: SPL805/22nH; Component Kind: Standard; Component Type: Standard; Designator: SPL805/22nH; Footprint: smd C0805; Library Reference: SPL805/22nH; Pin Count: 2
footprint smd C0805
pins: 1, 2

## SPL805/24nH
designator L?
smd spoel, verpakking 805, 24nH; Part Number: SPL805/24nH; Component Kind: Standard; Component Type: Standard; Designator: SPL805/24nH; Footprint: smd C0805; Library Reference: SPL805/24nH; Pin Count: 2
footprint smd C0805
pins: 1, 2

## SPL805/27nH
designator L?
smd spoel, verpakking 805, 27nH; Part Number: SPL805/27nH; Component Kind: Standard; Component Type: Standard; Designator: SPL805/27nH; Footprint: smd C0805; Library Reference: SPL805/27nH; Pin Count: 2
footprint smd C0805
pins: 1, 2

## SPL805/33nH
designator L?
smd spoel, verpakking 805, 33nH; Part Number: SPL805/33nH; Component Kind: Standard; Component Type: Standard; Designator: SPL805/33nH; Footprint: smd C0805; Library Reference: SPL805/33nH; Pin Count: 2
footprint smd C0805
pins: 1, 2

## SPL805/36nH
designator L?
smd spoel, verpakking 805, 36nH; Part Number: SPL805/36nH; Component Kind: Standard; Component Type: Standard; Designator: SPL805/36nH; Footprint: smd C0805; Library Reference: SPL805/36nH; Pin Count: 2
footprint smd C0805
pins: 1, 2

## SPL805/39nH
designator L?
smd spoel, verpakking 805, 39nH; Part Number: SPL805/39nH; Component Kind: Standard; Component Type: Standard; Designator: SPL805/39nH; Footprint: smd C0805; Library Reference: SPL805/39nH; Pin Count: 2
footprint smd C0805
pins: 1, 2

## SPL805/43nH
designator L?
smd spoel, verpakking 805, 43nH; Part Number: SPL805/43nH; Component Kind: Standard; Component Type: Standard; Designator: SPL805/43nH; Footprint: smd C0805; Library Reference: SPL805/43nH; Pin Count: 2
footprint smd C0805
pins: 1, 2

## SPL805/47nH
designator L?
smd spoel, verpakking 805, 47nH; Part Number: SPL805/47nH; Component Kind: Standard; Component Type: Standard; Designator: SPL805/47nH; Footprint: smd C0805; Library Reference: SPL805/47nH; Pin Count: 2
footprint smd C0805
pins: 1, 2

## SPL805/56nH
designator L?
smd spoel, verpakking 805, 56nH; Part Number: SPL805/56nH; Component Kind: Standard; Component Type: Standard; Designator: SPL805/56nH; Footprint: smd C0805; Library Reference: SPL805/56nH; Pin Count: 2
footprint smd C0805
pins: 1, 2

## SPL805/68nH
designator L?
smd spoel, verpakking 805, 68nH; Part Number: SPL805/68nH; Component Kind: Standard; Component Type: Standard; Designator: SPL805/68nH; Footprint: smd C0805; Library Reference: SPL805/68nH; Pin Count: 2
footprint smd C0805
pins: 1, 2

## SPL805/72nH
designator L?
smd spoel, verpakking 805, 72nH; Part Number: SPL805/72nH; Component Kind: Standard; Component Type: Standard; Designator: SPL805/72nH; Footprint: smd C0805; Library Reference: SPL805/72nH; Pin Count: 2
footprint smd C0805
pins: 1, 2

## SPL805/82nH
designator L?
smd spoel, verpakking 805, 82nH; Part Number: SPL805/82nH; Component Kind: Standard; Component Type: Standard; Designator: SPL805/82nH; Footprint: smd C0805; Library Reference: SPL805/82nH; Pin Count: 2
footprint smd C0805
pins: 1, 2

## SPL805/91nH
designator L?
smd spoel, verpakking 805, 91nH; Part Number: SPL805/91nH; Component Kind: Standard; Component Type: Standard; Designator: SPL805/91nH; Footprint: smd C0805; Library Reference: SPL805/91nH; Pin Count: 2
footprint smd C0805
pins: 1, 2

## SPL805/100nH
designator L?
smd spoel, verpakking 805, 100nH; Part Number: SPL805/100nH; Component Kind: Standard; Component Type: Standard; Designator: SPL805/100nH; Footprint: smd C0805; Library Reference: SPL805/100nH; Pin Count: 2
footprint smd C0805
pins: 1, 2

## SPL805/110nH
designator L?
smd spoel, verpakking 805, 110nH; Part Number: SPL805/110nH; Component Kind: Standard; Component Type: Standard; Designator: SPL805/110nH; Footprint: smd C0805; Library Reference: SPL805/110nH; Pin Count: 2
footprint smd C0805
pins: 1, 2

## SPL805/120nH
designator L?
smd spoel, verpakking 805, 120nH; Part Number: SPL805/120nH; Component Kind: Standard; Component Type: Standard; Designator: SPL805/120nH; Footprint: smd C0805; Library Reference: SPL805/120nH; Pin Count: 2
footprint smd C0805
pins: 1, 2

## SPL805/150nH
designator L?
smd spoel, verpakking 805, 150nH; Part Number: SPL805/150nH; Component Kind: Standard; Component Type: Standard; Designator: SPL805/150nH; Footprint: smd C0805; Library Reference: SPL805/150nH; Pin Count: 2
footprint smd C0805
pins: 1, 2

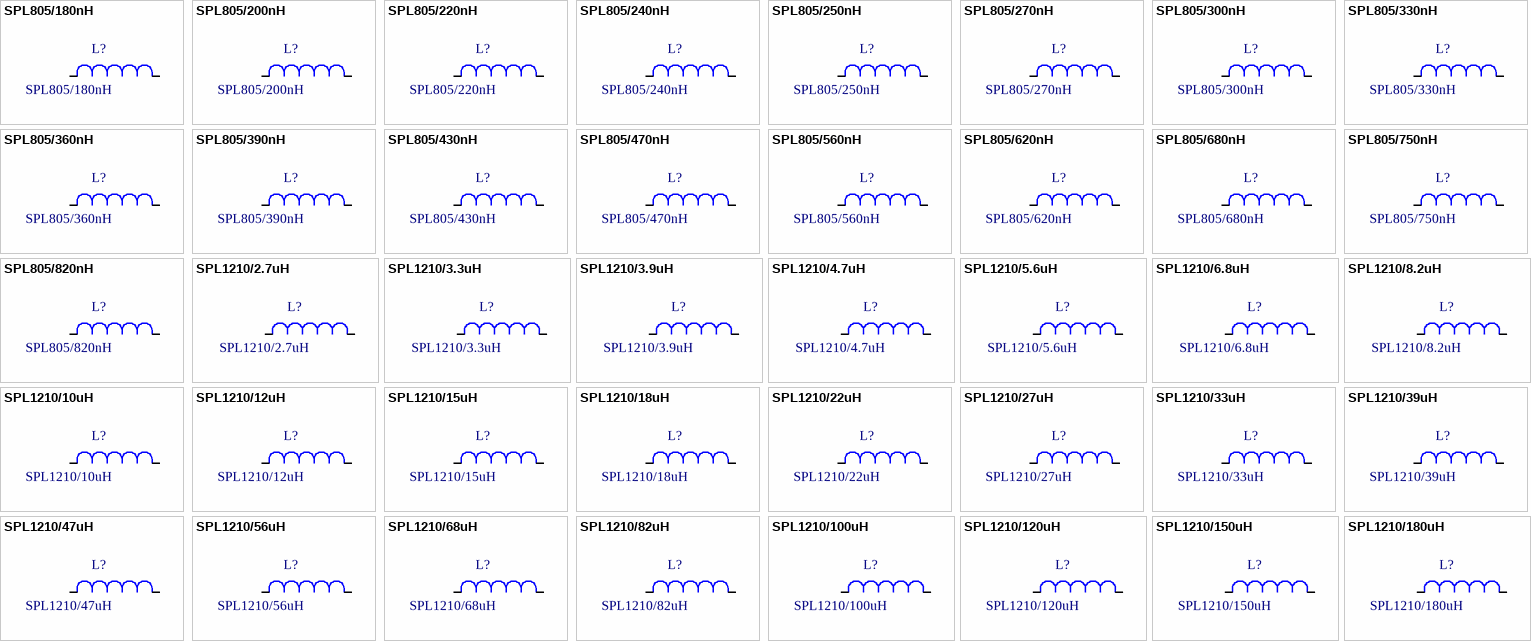
[diagram p116: symbols SPL805/180nH to SPL1210/180uH]

## SPL805/180nH
designator L?
smd spoel, verpakking 805, 180nH; Part Number: SPL805/180nH; Component Kind: Standard; Component Type: Standard; Designator: SPL805/180nH; Footprint: smd C0805; Library Reference: SPL805/180nH; Pin Count: 2
footprint smd C0805
pins: 1, 2

## SPL805/200nH
designator L?
smd spoel, verpakking 805, 200nH; Part Number: SPL805/200nH; Component Kind: Standard; Component Type: Standard; Designator: SPL805/200nH; Footprint: smd C0805; Library Reference: SPL805/200nH; Pin Count: 2
footprint smd C0805
pins: 1, 2

## SPL805/220nH
designator L?
smd spoel, verpakking 805, 220nH; Part Number: SPL805/220nH; Component Kind: Standard; Component Type: Standard; Designator: SPL805/220nH; Footprint: smd C0805; Library Reference: SPL805/220nH; Pin Count: 2
footprint smd C0805
pins: 1, 2

## SPL805/240nH
designator L?
smd spoel, verpakking 805, 240nH; Part Number: SPL805/240nH; Component Kind: Standard; Component Type: Standard; Designator: SPL805/240nH; Footprint: smd C0805; Library Reference: SPL805/240nH; Pin Count: 2
footprint smd C0805
pins: 1, 2

## SPL805/250nH
designator L?
smd spoel, verpakking 805, 250nH; Part Number: SPL805/250nH; Component Kind: Standard; Component Type: Standard; Designator: SPL805/250nH; Footprint: smd C0805; Library Reference: SPL805/250nH; Pin Count: 2
footprint smd C0805
pins: 1, 2

## SPL805/270nH
designator L?
smd spoel, verpakking 805, 270nH; Part Number: SPL805/270nH; Component Kind: Standard; Component Type: Standard; Designator: SPL805/270nH; Footprint: smd C0805; Library Reference: SPL805/270nH; Pin Count: 2
footprint smd C0805
pins: 1, 2

## SPL805/300nH
designator L?
smd spoel, verpakking 805, 300nH; Part Number: SPL805/300nH; Component Kind: Standard; Component Type: Standard; Designator: SPL805/300nH; Footprint: smd C0805; Library Reference: SPL805/300nH; Pin Count: 2
footprint smd C0805
pins: 1, 2

## SPL805/330nH
designator L?
smd spoel, verpakking 805, 330nH; Part Number: SPL805/330nH; Component Kind: Standard; Component Type: Standard; Designator: SPL805/330nH; Footprint: smd C0805; Library Reference: SPL805/330nH; Pin Count: 2
footprint smd C0805
pins: 1, 2

## SPL805/360nH
designator L?
smd spoel, verpakking 805, 360nH; Part Number: SPL805/360nH; Component Kind: Standard; Component Type: Standard; Designator: SPL805/360nH; Footprint: smd C0805; Library Reference: SPL805/360nH; Pin Count: 2
footprint smd C0805
pins: 1, 2

## SPL805/390nH
designator L?
smd spoel, verpakking 805, 390nH; Part Number: SPL805/390nH; Component Kind: Standard; Component Type: Standard; Designator: SPL805/390nH; Footprint: smd C0805; Library Reference: SPL805/390nH; Pin Count: 2
footprint smd C0805
pins: 1, 2

## SPL805/430nH
designator L?
smd spoel, verpakking 805, 430nH; Part Number: SPL805/430nH; Component Kind: Standard; Component Type: Standard; Designator: SPL805/430nH; Footprint: smd C0805; Library Reference: SPL805/430nH; Pin Count: 2
footprint smd C0805
pins: 1, 2

## SPL805/470nH
designator L?
smd spoel, verpakking 805, 470nH; Part Number: SPL805/470nH; Component Kind: Standard; Component Type: Standard; Designator: SPL805/470nH; Footprint: smd C0805; Library Reference: SPL805/470nH; Pin Count: 2
footprint smd C0805
pins: 1, 2

## SPL805/560nH
designator L?
smd spoel, verpakking 805, 560nH; Part Number: SPL805/560nH; Component Kind: Standard; Component Type: Standard; Designator: SPL805/560nH; Footprint: smd C0805; Library Reference: SPL805/560nH; Pin Count: 2
footprint smd C0805
pins: 1, 2

## SPL805/620nH
designator L?
smd spoel, verpakking 805, 620nH; Part Number: SPL805/620nH; Component Kind: Standard; Component Type: Standard; Designator: SPL805/620nH; Footprint: smd C0805; Library Reference: SPL805/620nH; Pin Count: 2
footprint smd C0805
pins: 1, 2

## SPL805/680nH
designator L?
smd spoel, verpakking 805, 680nH; Part Number: SPL805/680nH; Component Kind: Standard; Component Type: Standard; Designator: SPL805/680nH; Footprint: smd C0805; Library Reference: SPL805/680nH; Pin Count: 2
footprint smd C0805
pins: 1, 2

## SPL805/750nH
designator L?
smd spoel, verpakking 805, 750nH; Part Number: SPL805/750nH; Component Kind: Standard; Component Type: Standard; Designator: SPL805/750nH; Footprint: smd C0805; Library Reference: SPL805/750nH; Pin Count: 2
footprint smd C0805
pins: 1, 2

## SPL805/820nH
designator L?
smd spoel, verpakking 805, 820nH; Part Number: SPL805/820nH; Component Kind: Standard; Component Type: Standard; Designator: SPL805/820nH; Footprint: smd C0805; Library Reference: SPL805/820nH; Pin Count: 2
footprint smd C0805
pins: 1, 2

## SPL1210/2.7uH
designator L?
smd spoel, verpakking 1210, 2.7uH
footprint smd C1210
pins: 1, 2

## SPL1210/3.3uH
designator L?
smd spoel, verpakking 1210, 3.3uH; Part Number: SPL1210/3.3uH; Component Kind: Standard; Component Type: Standard; Designator: SPL1210/3.3uH; Footprint: smd C1210; Library Reference: SPL1210/3.3uH; Pin Count: 2
footprint smd C1210
pins: 1, 2

## SPL1210/3.9uH
designator L?
smd spoel, verpakking 1210, 3.9uH; Part Number: SPL1210/3.9uH; Component Kind: Standard; Component Type: Standard; Designator: SPL1210/3.9uH; Footprint: smd C1210; Library Reference: SPL1210/3.9uH; Pin Count: 2
footprint smd C1210
pins: 1, 2

## SPL1210/4.7uH
designator L?
smd spoel, verpakking 1210, 4.7uH; Part Number: SPL1210/4.7uH; Component Kind: Standard; Component Type: Standard; Designator: SPL1210/4.7uH; Footprint: smd C1210; Library Reference: SPL1210/4.7uH; Pin Count: 2
footprint smd C1210
pins: 1, 2

## SPL1210/5.6uH
designator L?
smd spoel, verpakking 1210, 5.6uH; Part Number: SPL1210/5.6uH; Component Kind: Standard; Component Type: Standard; Designator: SPL1210/5.6uH; Footprint: smd C1210; Library Reference: SPL1210/5.6uH; Pin Count: 2
footprint smd C1210
pins: 1, 2

## SPL1210/6.8uH
designator L?
smd spoel, verpakking 1210, 6.8uH; Part Number: SPL1210/6.8uH; Component Kind: Standard; Component Type: Standard; Designator: SPL1210/6.8uH; Footprint: smd C1210; Library Reference: SPL1210/6.8uH; Pin Count: 2
footprint smd C1210
pins: 1, 2

## SPL1210/8.2uH
designator L?
smd spoel, verpakking 1210, 8.2uH; Part Number: SPL1210/8.2uH; Component Kind: Standard; Component Type: Standard; Designator: SPL1210/8.2uH; Footprint: smd C1210; Library Reference: SPL1210/8.2uH; Pin Count: 2
footprint smd C1210
pins: 1, 2

## SPL1210/10uH
designator L?
smd spoel, verpakking 1210, 10uH; Part Number: SPL1210/10uH; Component Kind: Standard; Component Type: Standard; Designator: SPL1210/10uH; Footprint: smd C1210; Library Reference: SPL1210/10uH; Pin Count: 2
footprint smd C1210
pins: 1, 2

## SPL1210/12uH
designator L?
smd spoel, verpakking 1210, 12uH; Part Number: SPL1210/12uH; Component Kind: Standard; Component Type: Standard; Designator: SPL1210/12uH; Footprint: smd C1210; Library Reference: SPL1210/12uH; Pin Count: 2
footprint smd C1210
pins: 1, 2

## SPL1210/15uH
designator L?
smd spoel, verpakking 1210, 15uH; Part Number: SPL1210/15uH; Component Kind: Standard; Component Type: Standard; Designator: SPL1210/15uH; Footprint: smd C1210; Library Reference: SPL1210/15uH; Pin Count: 2
footprint smd C1210
pins: 1, 2

## SPL1210/18uH
designator L?
smd spoel, verpakking 1210, 18uH; Part Number: SPL1210/18uH; Component Kind: Standard; Component Type: Standard; Designator: SPL1210/18uH; Footprint: smd C1210; Library Reference: SPL1210/18uH; Pin Count: 2
footprint smd C1210
pins: 1, 2

## SPL1210/22uH
designator L?
smd spoel, verpakking 1210, 22uH; Part Number: SPL1210/22uH; Component Kind: Standard; Component Type: Standard; Designator: SPL1210/22uH; Footprint: smd C1210; Library Reference: SPL1210/22uH; Pin Count: 2
footprint smd C1210
pins: 1, 2

## SPL1210/27uH
designator L?
smd spoel, verpakking 1210, 27uH; Part Number: SPL1210/27uH; Component Kind: Standard; Component Type: Standard; Designator: SPL1210/27uH; Footprint: smd C1210; Library Reference: SPL1210/27uH; Pin Count: 2
footprint smd C1210
pins: 1, 2

## SPL1210/33uH
designator L?
smd spoel, verpakking 1210, 33uH; Part Number: SPL1210/33uH; Component Kind: Standard; Component Type: Standard; Designator: SPL1210/33uH; Footprint: smd C1210; Library Reference: SPL1210/33uH; Pin Count: 2
footprint smd C1210
pins: 1, 2